# EAGLE library part CC2520 (library CC2520_wireless_module)
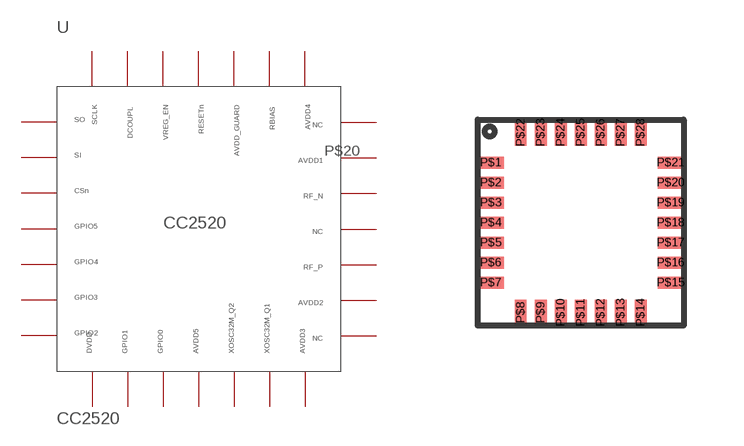
[diagram p0: symbol with the pads of CC2520_FOOT; footprint CC2520_FOOT]

Designator prefix -

## CC2520  [CC2520_FOOT]
P$1  P$1
P$2  P$2
P$3  P$3
P$4  P$4
P$5  P$5
P$6  P$6
P$7  P$7
P$8  P$8
P$9  P$9
P$10  P$10
P$11  P$11
P$12  P$12
P$13  P$13
P$14  P$14
P$15  P$15
P$16  P$16
P$17  P$17
P$18  P$18
P$19  P$19
P$20  P$20
P$21  P$21
P$22  P$22
P$23  P$23
P$24  P$24
P$25  P$25
P$26  P$26
P$27  P$27
P$28  P$28

## Footprint CC2520_FOOT (pad centres in mm)
smd 0.65 x 0.3: P$1 0.325,4.075; P$2 0.325,3.575; P$3 0.325,3.075; P$4 0.325,2.575; P$5 0.325,2.075; P$6 0.325,1.575; P$7 0.325,1.075; P$15 4.825,1.075; P$16 4.825,1.575; P$17 4.825,2.075; P$18 4.825,2.575; P$19 4.825,3.075; P$20 4.825,3.575; P$21 4.825,4.075
smd 0.3 x 0.65: P$8 1.075,0.325; P$9 1.575,0.325; P$10 2.075,0.325; P$11 2.575,0.325; P$12 3.075,0.325; P$13 3.575,0.325; P$14 4.075,0.325; P$22 1.075,4.825; P$23 1.575,4.825; P$24 2.075,4.825; P$25 2.575,4.825; P$26 3.075,4.825; P$27 3.575,4.825; P$28 4.075,4.825